# Altium schematic symbol library LTC2439-1IGN#PBF.SchLib: 1 symbol
Pins are listed as number, name and electrical type; pins without a type are passive.

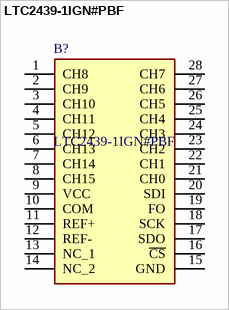
[diagram p0: symbol LTC2439-1IGN#PBF]

## LTC2439-1IGN#PBF
designator B?
LINEAR TECHNOLOGY - LTC2439-1IGN#PBF - Analogue to Digital Converter, Octal, 16 bit, 6.9 SPS, Differential, Single Ended, SPI, Single; Manufacturer_Name: Analog Devices; Geometry.Height: 1.75mm; Manufacturer_Part_Number: LTC2439-1IGN#PBF; Mouser Part Number: 584-LTC2439-1IGN#PBF; Mouser Price/Stock: https://www.mouser.co.uk/ProductDetail/Analog-Devices/LTC2439-1IGNPBF?qs=hVkxg5c3xu%2F3ZSVw0cv92Q%3D%3D; Arrow Part Number: LTC2439-1IGN#PBF; Arrow Price/Stock: https://www.arrow.com/en/products/ltc2439-1ignpbf/analog-devices?region=nac; Datasheet Link: https://datasheet.datasheetarchive.com/originals/distributors/SFDatasheet-4/sf-00091692.pdf
footprint SOP64P601X175-28N
pins: 1 CH8, 2 CH9, 3 CH10, 4 CH11, 5 CH12, 6 CH13, 7 CH14, 8 CH15, 9 VCC, 10 COM, 11 REF+, 12 REF-, 13 NC_1, 14 NC_2, 15 GND, 16 ~{CS}, 17 SDO, 18 SCK, 19 FO, 20 SDI, 21 CH0, 22 CH1, 23 CH2, 24 CH3, 25 CH4, 26 CH5, 27 CH6, 28 CH7